# Altium schematic symbol library Schlib1.SchLib: 8 symbols
Pins are listed as number, name and electrical type; pins without a type are passive.

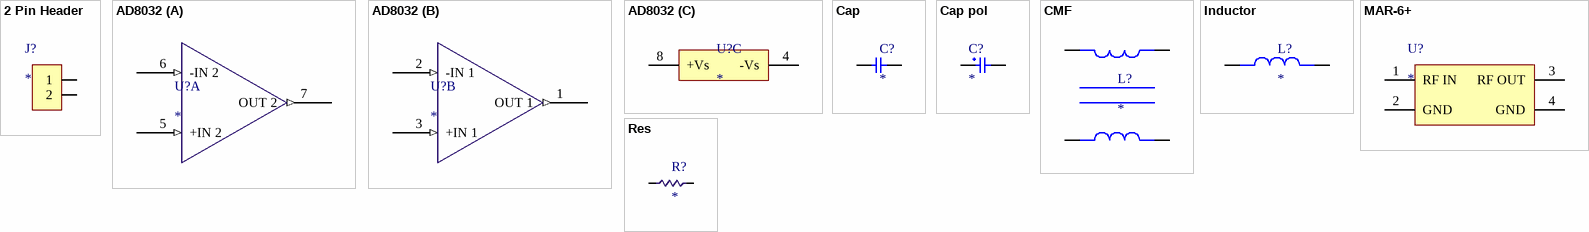
[diagram p0: symbols 2 Pin Header to Res]

## 2 Pin Header
designator J?
footprint 2POS_5.08mm_Terminal
footprint 2POS_2.54mm_PIN Header
pins: 1, 2

## AD8032
designator U?
footprint SOIC127P600X175-8N (SOIC, 8-Leads, Body 4.90x3.90mm, Pitch 1.27mm, IPC Medium Density)
part A pins: 5 +IN 2 (in), 6 -IN 2 (in), 7 OUT 2 (out)
part B pins: 1 OUT 1 (out), 2 -IN 1 (in), 3 +IN 1 (in)
part C pins: 4 -Vs, 8 +Vs

## Cap
designator C?
footprint CAP805
pins: 1, 2

## Cap pol
designator C?
footprint V-CHIP CAP
pins: 1, 2

## CMF
designator L?
footprint CMF
pins: 1, 2, 3, 4

## Inductor
designator L?
footprint Inductor
footprint INDUCTOR_SMD_10.5x11.5
footprint INDUCtOR_SMD_4.2x4.4
footprint INDUCTOR_SMD_6x6
footprint INDUCTOR 33uH 1812
pins: 1, 2

## MAR-6+
designator U?
footprint VV105
pins: 1 RF IN, 2 GND, 3 RF OUT, 4 GND

## Res
designator R?
footprint RES805
footprint RES1812
pins: 1, 2